# Altium footprint library Клеммники.PcbLib: 37 footprints (part 2 of 3)
Each footprint in its own frame and in the unit in brackets; x right, y up, seen from the top. Pads: shape width x height; smd on the part's side, far side on the other; paste and mask are expansions set on the pad; w line width, h text height; cw(c..) or ccw(c..) is an arc to the next point about the centre after c.
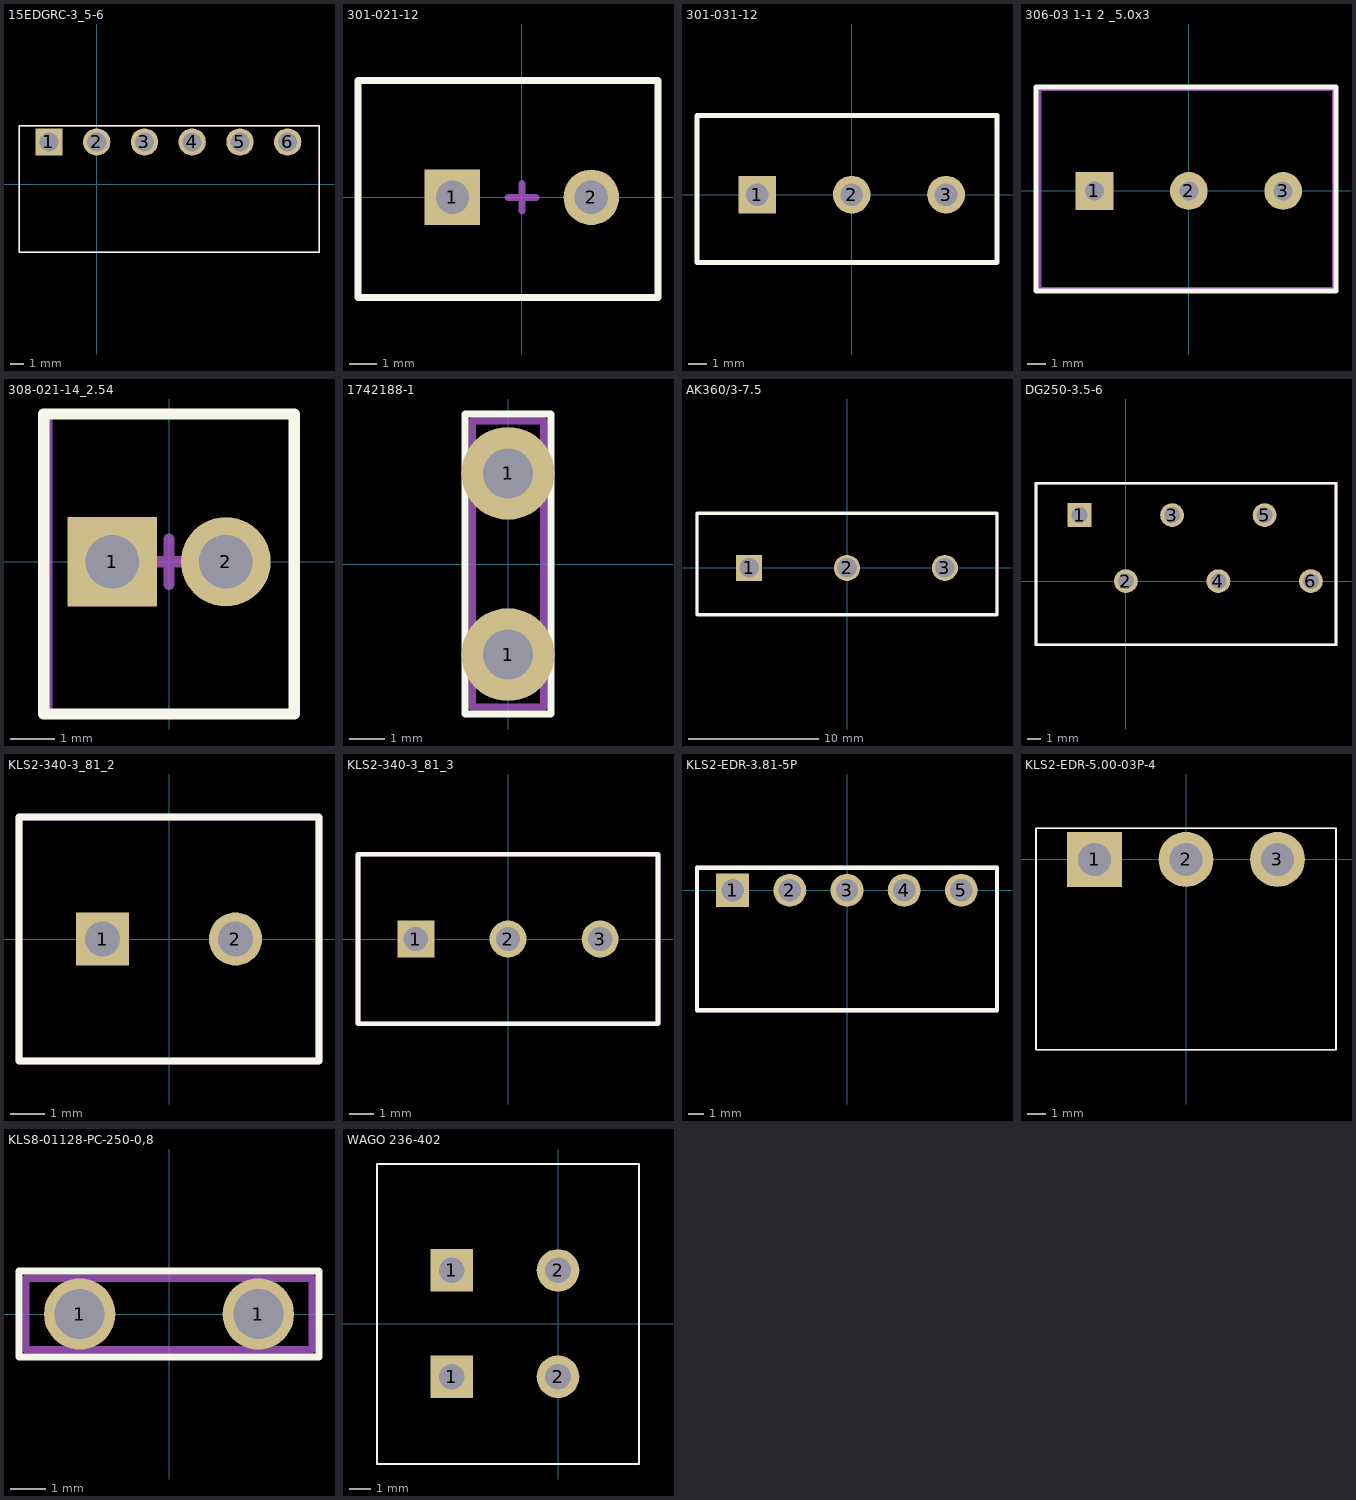
[diagram p1: the footprints below, top view; thin cyan lines are the x and y axes]

## 15EDGRC-3_5-6 [mm]
pads (6):
  rect 2x2 hole 1.4: 1(-3.5,3.1)
  round 2 hole 1.4: 2(0,3.1) 3(3.5,3.1) 4(7,3.1) 5(10.5,3.1) 6(14,3.1)
Top Overlay:
  lines w0.1: -5.7,-5 16.3,-5 16.3,4.3 -5.7,4.3 -5.7,-5
TopAssy:
  lines w0.1: -5.7,-5 -5.7,4.3 16.3,4.3 16.3,-5 -5.7,-5
  text ".Designator" at -3.3,-0.4 h1.52
3D body "15EDGRC-3_5-03P.STEP": height 7.2, standoff -3.4, extent 4.95,-5 16.2,4.2
3D body "15EDGRC-3_5-03P.STEP": height 7.2, standoff -3.4, extent -5.625,-5 5.625,4.2

## 301-021-12 [mm]
pads (2):
  rect 2x2 hole 1.2: 1(-2.5,0)
  round 2 hole 1.2: 2(2.5,0)
Top Overlay:
  lines w0.254: -5.9,-3.6 4.9,-3.6 4.9,4.2 -5.9,4.2 -5.9,-3.6
TopAssy:
  lines w0.2: -5.9,-3.6 4.9,-3.6 4.9,4.2 -5.9,4.2 -5.9,-3.6
  text ".Designator" at -3.5,-0.1 h1.52
Mechanical 11:
  lines w0.254: -0.5,0 0.5,0 ; 0,-0.5 0,0.5
3D body "User Library-xy301a_5.STEP": height 10.1, standoff -4.3, extent -5.85,-3.5 4.85,4.1

## 301-031-12 [mm]
pads (3):
  rect 2x2 hole 1.2: 1(-5,0)
  round 2 hole 1.2: 2(0,0) 3(5,0)
Top Overlay:
  lines w0.254: -8.2,-3.6 7.7,-3.6 7.7,4.2 -8.2,4.2 -8.2,-3.6
TopAssy:
  lines w0.2: -8.2,-3.6 7.7,-3.6 7.7,4.2 -8.2,4.2 -8.2,-3.6
  text ".Designator" at -3.5,-0.1 h1.52
Mechanical 11:
  lines w0.254: -0.5,0 0.5,0 ; 0,-0.5 0,0.5
3D body "301-031-12.stp": height 10.1, standoff -4.3, extent -8.15,-3.6 7.55,4

## 306-03 1-1 2 _5.0x3 [mm]
pads (3):
  rect 2x2 hole 1: 1(-5,0)
  round 2 hole 1: 2(0,0) 3(5,0)
Top Overlay:
  lines w0.254: -8.1,-5.3 7.8,-5.3 7.8,5.5 -8.1,5.5 -8.1,-5.3
TopAssy:
  lines w0.2: -7.9,-5.2 -7.9,5.4 7.7,5.4 7.7,-5.2 -7.9,-5.2
  text ".Designator" at -7.5,-3.9 h1.52
3D body "DG128-5_0-03P-14.step": height 14.1, standoff -3.5, extent -7.8,-5 7.5,5.2

## 308-021-14_2.54 [mm]
pads (2):
  rect 2x2 hole 1.2: 1(-1.27,0)
  round 2 hole 1.2: 2(1.27,0)
Top Overlay:
  lines w0.254: -2.8,-3.4 -2.8,3.3 2.8,3.3 2.8,-3.4 -2.8,-3.4
TopAssy:
  lines w0.2: -2.7,-3.4 -2.7,3.3 2.8,3.3 2.8,-3.4 -2.7,-3.4
  text ".Designator" at -2.3,-2.1 h1.52
Mechanical 11:
  lines w0.254: -0.5,0 0.5,0 ; 0,-0.5 0,0.5
3D body "Клеммник 2х2_54.step": height 8.5, standoff -3.5, extent -2.77,-3.3 2.77,3.2

## 1742188-1 [mm]
pads (2):
  round 2.6 hole 1.4: 1(0,-2.54) 1(0,2.54)
Top Overlay:
  lines w0.2: -1.2,-4.2 -1.2,4.2 1.2,4.2 1.2,-4.2 -1.2,-4.2
TopAssy:
  lines w0.2: -1,-4 1,-4 1,4 -1,4 -1,-4
  text ".Designator" at -0.6,-2.7 h1.52
3D body "1742188-1.stp": height 10.4, standoff -3.62, extent -1.543,-3.962 1.543,3.963

## AK360/3-7.5 [mm]
pads (3):
  rect 2x2 hole 1.5: 1(-7.5,0)
  round 2 hole 1.5: 2(0,0) 3(7.5,0)
Top Overlay:
  lines w0.254: -11.5,-3.6 -11.5,4.2 11.5,4.2 11.5,-3.6 -11.5,-3.6
TopAssy:
  lines w0.2: -11.5,-3.6 -11.5,4.2 11.5,4.2 11.5,-3.6 -11.5,-3.6
  text ".Designator" at -3.5,-0.1 h1.52
Mechanical 11:
  lines w0.254: -0.5,0 0.5,0 ; 0,-0.5 0,0.5

## DG250-3.5-6 [mm]
pads (6):
  rect 1.8x1.8 hole 1.2: 1(-3.5,5)
  round 1.8 hole 1.2: 2(0,0) 3(3.5,5) 4(7,0) 5(10.5,5) 6(14,0)
Top Overlay:
  lines w0.2: -6.8,-4.8 15.9,-4.8 15.9,7.4 -6.8,7.4 -6.8,-4.8
TopAssy:
  lines w0.2: -6.8,-4.8 -6.8,7.4 15.9,7.4 15.9,-4.8 -6.8,-4.8
  text ".Designator" at 1.2,1.8 h1.52
3D body "DG250-3.5-6.stp": height 13, standoff -2, extent -6.7,-4.7 15.8,7.3

## DG500-5.08-02P [mm]
3D body "2pin_5_08.stp": height 13.5, standoff 0, extent -2.4,-2.8 8.71,5.2

## KLS2-340-3_81_2 [mil]
pads (2):
  rect 60x60 hole 39.37: 1(-75,0)
  round 60 hole 39.37: 2(75,0)
Top Overlay:
  lines w7.87: -169.29,-137.8 -169.29,137.8 169.29,137.8 169.29,-137.8 -169.29,-137.8
TopAssy:
  lines w7.87: -169.29,-137.8 169.29,-137.8 169.29,137.8 -169.29,137.8 -169.29,-137.8
  text ".Designator" at -125.98,-23.62 h60
3D body "KLS2-340-3_81-2.step": height 330.71, standoff -128.89, extent -169.89,-137.8 169.48,137.79

## KLS2-340-3_81_3 [mil]
pads (3):
  rect 60x60 hole 39.37: 1(-150,0)
  round 60 hole 39.37: 2(0,0) 3(150,0)
Top Overlay:
  lines w7.87: -244.09,-137.8 -244.09,137.8 244.09,137.8 244.09,-137.8 -244.09,-137.8
TopAssy:
  lines w7.87: -244.09,-137.8 244.09,-137.8 244.09,137.8 -244.09,137.8 -244.09,-137.8
  text ".Designator" at -125.98,-23.62 h60
3D body "KLS2-340-3_81_3.step": height 330.71, standoff -128.89, extent -244.69,-137.8 244.68,137.79

## KLS2-EDR-3.81-5P [mm]
pads (5):
  rect 2.2x2.2 hole 1.5: 1(-7.62,0)
  round 2.2 hole 1.5: 2(-3.81,0) 3(0,0) 4(3.81,0) 5(7.62,0)
Top Overlay:
  lines w0.3: -10,-8 -10,1.5 10,1.5 10,-8 -10,-8
TopAssy:
  lines w0.3: -10,-8 10,-8 10,1.5 -10,1.5 -10,-8
  text ".Designator" at -5.1,-4.2 h3

## KLS2-EDR-5.00-03P-4 [mm]
pads (3):
  rect 3x3 hole 1.8: 1(-5,0)
  round 3 hole 1.8: 2(0,0) 3(5,0)
Top Overlay:
  lines w0.1: -8.2,-10.4 -8.2,1.7 8.2,1.7 8.2,-10.4 -8.2,-10.4
TopAssy:
  lines w0.1: -8.2,-10.4 8.2,-10.4 8.2,1.7 -8.2,1.7 -8.2,-10.4
  text ".Designator" at -3.9,-5.2 h1.52
3D body "2EDGRC-5_0-03P_H.step": height 9.1, standoff -3.1, extent -8.2,-10.4 8.2,1.7

## KLS8-01128-PC-250-0,8 [mm]
pads (2):
  round 2 hole 1.4: 1(-2.5,0) 1(2.5,0)
Top Overlay:
  lines w0.2: -4.2,-1.2 4.2,-1.2 4.2,1.2 -4.2,1.2 -4.2,-1.2
TopAssy:
  lines w0.2: -4,-1 -4,1 4,1 4,-1 -4,-1
3D body "KLS8-01128-PC-250-0_8.STEP": height 10, standoff -3.5, extent -4.175,-0.4 4.175,0.4

## PCBComponent_1 [mm]

## WAGO 236-402 [mm]
pads (4):
  rect 2x2 hole 1.2: 1(-5,-2.5) 1(-5,2.5)
  round 2 hole 1.2: 2(0,-2.5) 2(0,2.5)
Top Overlay:
  lines w0.1: -8.5,-6.6 3.8,-6.6 3.8,7.5 -8.5,7.5 -8.5,-6.6
TopAssy:
  lines w0.1: -8.5,-6.6 3.8,-6.6 3.8,7.5 -8.5,7.5 -8.5,-6.6
  text ".Designator" at -3.8,-0.5 h1.52
3D body "WAGO_236-402.STEP": height 14.6, standoff -2.4, extent -8.5,-6.6 3.8,7.4